# EAGLE library part TB6593FNG (library IC)
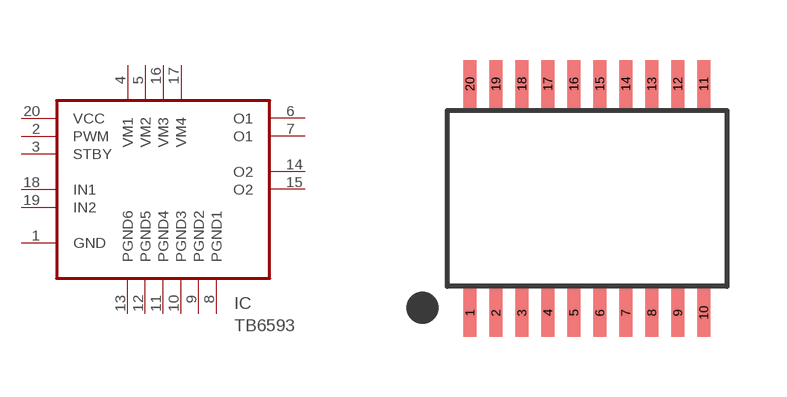
[diagram p2: symbol with the pads of SSOP20-0.65; footprint SSOP20-0.65]

Designator prefix IC

## TB6593FNG  [SSOP20-0.65]
1  GND  pwr
2  PWM  in
3  STBY  in
4  VM1  pwr
5  VM2  pwr
6  O1  out
7  O1  out
8  PGND1  pwr
9  PGND2  pwr
10  PGND3  pwr
11  PGND4  pwr
12  PGND5  pwr
13  PGND6  pwr
14  O2  out
15  O2  out
16  VM3  pwr
17  VM4  pwr
18  IN1  in
19  IN2  in
20  VCC  in

## Footprint SSOP20-0.65 (pad centres in mm)
smd 0.33 x 1.2: 1 -2.925,-2.86; 2 -2.275,-2.86; 3 -1.625,-2.86; 4 -0.975,-2.86; 5 -0.325,-2.86; 6 0.325,-2.86; 7 0.975,-2.86; 8 1.625,-2.86; 9 2.275,-2.86; 10 2.925,-2.86; 11 2.925,2.86; 12 2.275,2.86; 13 1.625,2.86; 14 0.975,2.86; 15 0.325,2.86; 16 -0.325,2.86; 17 -0.975,2.86; 18 -1.625,2.86; 19 -2.275,2.86; 20 -2.925,2.86